# Altium footprint library S100 PCBLib.PcbLib: 24 footprints (part 2 of 2)
Each footprint in its own frame and in the unit in brackets; x right, y up, seen from the top. Pads: shape width x height; smd on the part's side, far side on the other; paste and mask are expansions set on the pad; w line width, h text height; cw(c..) or ccw(c..) is an arc to the next point about the centre after c.
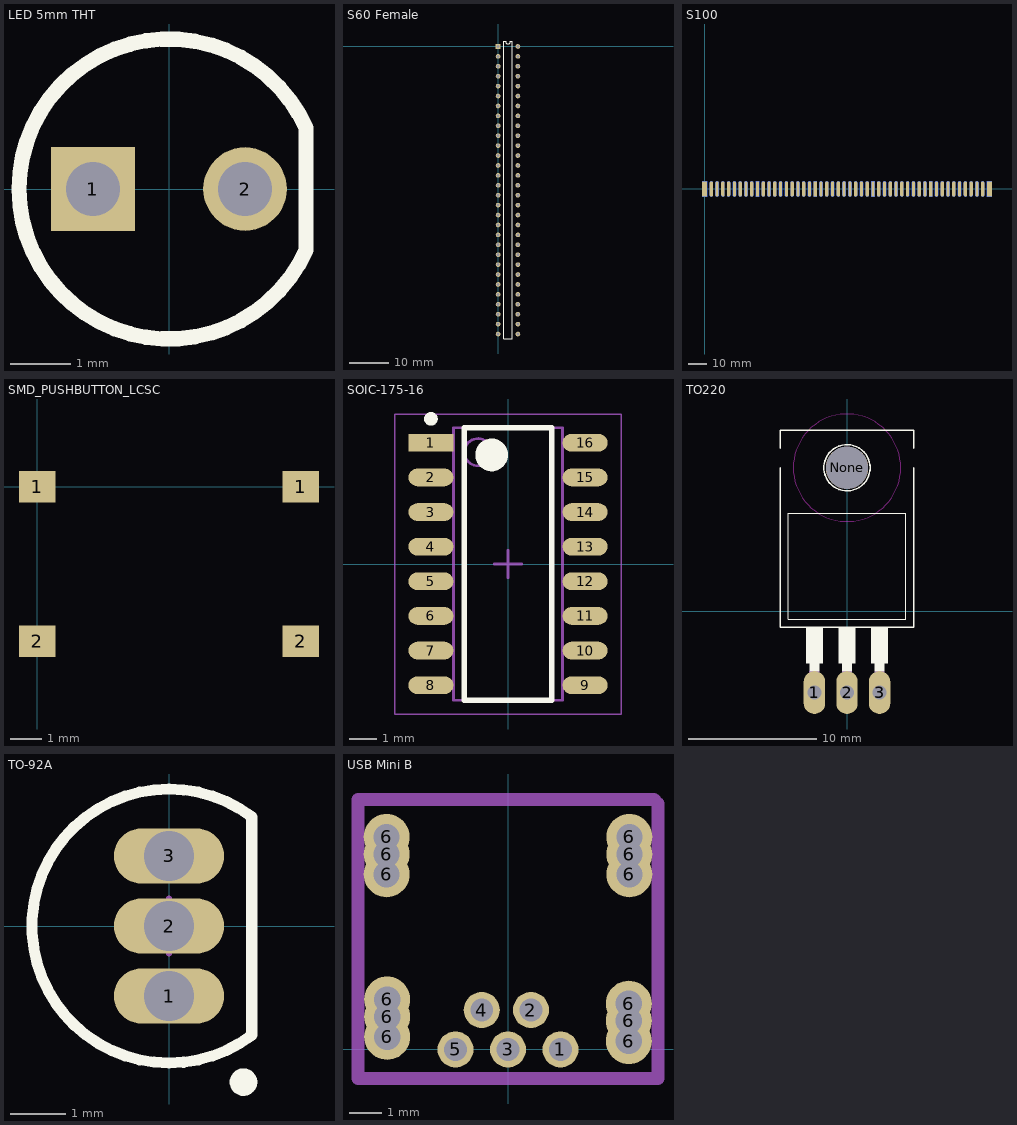
[diagram p1: the footprints below, top view; thin cyan lines are the x and y axes]

## LED 5mm THT [mil]
pads (2):
  rect 55x55 hole 35.43: 1(-50,0)
  round 55 hole 35.43: 2(50,0)
Top Overlay:
  lines w10: 90.12,-40.01 90.12,40.05 ccw(c0,0) 90.13,-40.01
3D body "LED, 5mm, red v4.step": height 350.39, standoff -1102.36, extent -116.13,-116.11 100.92,116.12

## S60 Female [mm]
pads (60):
  rect 1.2x1.2 hole 0.8: 1(0,0)
  round 1.2 hole 0.8: 2(0,-2.54) 3(0,-5.08) 4(0,-7.62) 5(0,-10.16) 6(0,-12.7) 7(0,-15.24) 8(0,-17.78) 9(0,-20.32) 10(0,-22.86) 11(0,-25.4) 12(0,-27.94) 13(0,-30.48) 14(0,-33.02) 15(0,-35.56) 16(0,-38.1) 17(0,-40.64) 18(0,-43.18) 19(0,-45.72) 20(0,-48.26) 21(0,-50.8) 22(0,-53.34) 23(0,-55.88) 24(0,-58.42) 25(0,-60.96) 26(0,-63.5) 27(0,-66.04) 28(0,-68.58) 29(0,-71.12) 30(0,-73.66) 31(5.08,-73.66) 32(5.08,-71.12) 33(5.08,-68.58) 34(5.08,-66.04) 35(5.08,-63.5) 36(5.08,-60.96) 37(5.08,-58.42) 38(5.08,-55.88) 39(5.08,-53.34) 40(5.08,-50.8) 41(5.08,-48.26) 42(5.08,-45.72) 43(5.08,-43.18) 44(5.08,-40.64) 45(5.08,-38.1) 46(5.08,-35.56) 47(5.08,-33.02) 48(5.08,-30.48) 49(5.08,-27.94) 50(5.08,-25.4) 51(5.08,-22.86) 52(5.08,-20.32) 53(5.08,-17.78) 54(5.08,-15.24) 55(5.08,-12.7) 56(5.08,-10.16) 57(5.08,-7.62) 58(5.08,-5.08) 59(5.08,-2.54) 60(5.08,0)
Top Overlay:
  lines w0.2: 1.435,-74.93 3.645,-74.93 3.645,1.27 3.175,1.27 cw(c2.54,1.27) 1.905,1.27 1.435,1.27 1.435,-74.93

## S100 [mil]
pads (100):
  rect 110x330 smd: 1(0,0) 50(6165,0)
  oval 70x330 smd: 2(145,0) 3(270,0) 4(395,0) 5(520,0) 6(645,0) 7(770,0) 8(895,0) 9(1020,0) 11(1270,0) 12(1395,0) 13(1520,0) 14(1645,0) 15(1770,0) 16(1895,0) 17(2020,0) 18(2145,0) 19(2270,0) 21(2520,0) 22(2645,0) 23(2770,0) 24(2895,0) 25(3020,0) 26(3145,0) 27(3270,0) 28(3395,0) 29(3520,0) 31(3770,0) 32(3895,0) 33(4020,0) 34(4145,0) 35(4270,0) 36(4395,0) 37(4520,0) 38(4645,0) 39(4770,0) 41(5020,0) 42(5145,0) 43(5270,0) 44(5395,0) 45(5520,0) 46(5645,0) 47(5770,0) 48(5895,0) 49(6020,0)
  rect 70x330 smd: 10(1145,0) 20(2395,0) 30(3645,0) 40(4895,0)
  rect 110x330 smd far side: 51(0,0) 100(6165,0)
  oval 70x330 smd far side: 52(145,0) 53(270,0) 54(395,0) 55(520,0) 56(645,0) 57(770,0) 58(895,0) 59(1020,0) 61(1270,0) 62(1395,0) 63(1520,0) 64(1645,0) 65(1770,0) 66(1895,0) 67(2020,0) 68(2145,0) 69(2270,0) 71(2520,0) 72(2645,0) 73(2770,0) 74(2895,0) 75(3020,0) 76(3145,0) 77(3270,0) 78(3395,0) 79(3520,0) 81(3770,0) 82(3895,0) 83(4020,0) 84(4145,0) 85(4270,0) 86(4395,0) 87(4520,0) 88(4645,0) 89(4770,0) 91(5020,0) 92(5145,0) 93(5270,0) 94(5395,0) 95(5520,0) 96(5645,0) 97(5770,0) 98(5895,0) 99(6020,0)
  rect 70x330 smd far side: 60(1145,0) 70(2395,0) 80(3645,0) 90(4895,0)
Top Solder:
  rectangle: -92.52,-168.11 6253.94,107.48

## SMD_PUSHBUTTON_LCSC [mm]
pads (4):
  rect 1.15x1 smd: 1(0,0) 1(8.35,0) 2(0,-4.9) 2(8.35,-4.9)

## SOIC-175-16 [mm] "SOIC, 16-Leads, Body 9.90x3.90mm, Pitch 1.27mm, IPC Low Density"
height 1.75
pads (16):
  rect 1.65x0.65 smd: 1(-2.825,4.445)
  oval 1.65x0.65 smd: 2(-2.825,3.175) 3(-2.825,1.905) 4(-2.825,0.635) 5(-2.825,-0.635) 6(-2.825,-1.905) 7(-2.825,-3.175) 8(-2.825,-4.445) 9(2.825,-4.445) 10(2.825,-3.175) 11(2.825,-1.905) 12(2.825,-0.635) 13(2.825,0.635) 14(2.825,1.905) 15(2.825,3.175) 16(2.825,4.445)
Top Overlay:
  circle w0.6: c-0.6,4 r0.3
  circle w0.25: c-2.825,5.32 r0.125
  lines w0.2: -1.6,-5 1.6,-5 1.6,5 -1.6,5 -1.6,-5
Top Assembly:
  circle w0.1: c-1.1,4.1 r0.5
  lines w0.1: -2,-5 2,-5 2,5 -2,5 -2,-5
Top Courtyard:
  lines w0.05: -4.15,-5.5 4.15,-5.5 4.15,5.5 -4.15,5.5 -4.15,-5.5
  lines w0.1: -0.5,0 0.5,0 ; 0,-0.5 0,0.5
3D body "SOIC127P600X175-16M.step": height 1.75, standoff 0, extent -3,-5 3,5

## TO220 [mil]
pads (4):
  oval 66x132 hole 44: 1(-100,-250) 2(0,-250) 3(100,-250)
  round 130 hole 130 unplated: None(0,440)
Top Overlay:
  circle w5: c0,440 r71
  region: 75.08,-50 125,-50 125,-160.18 75.08,-160.18
  region: -25.03,-50 25,-50 25,-160.22 -25.03,-160.22
  region: -125.22,-50 -75,-50 -75,-160.28 -125.22,-160.28
  region: -115.05,-160 -85,-160 -85,-185.08 -115.05,-185.08
  region: -15.01,-160 15,-160 15,-185.09 -15.01,-185.09
  region: 85.03,-160 115,-160 115,-185.06 85.03,-185.06
  lines w2: -180,-25 -180,300 180,300 180,-25 -180,-25
  lines w5: -205,440 -205,-50 205,-50 205,440 ; -205,500 -205,555 205,555 205,500
Keep-Out Layer:
  circle w0: c0,440 r165
  circle w0: c0,440 r165
  circle w0: c0,440 r165
  circle w0: c0,440 r165
  circle w0: c0,440 r165
  circle w0: c0,440 r165
Mechanical 4:
  region: 85.1,-185 115,-185 115,-260.31 85.1,-260.31
  region: -15.03,-185 15,-185 15,-260.5 -15.03,-260.5
  region: -115.14,-185 -85,-185 -85,-260.33 -115.14,-260.33
  region: 85.1,-185 115,-185 115,-260.31 85.1,-260.31
  region: -15.03,-185 15,-185 15,-260.5 -15.03,-260.5
  region: -115.14,-185 -85,-185 -85,-260.33 -115.14,-260.33
  text "3" at 75.02,-9.84 h73.82
  text "2" at -25.04,-9.84 h73.82
  text "1" at -125.24,-9.84 h73.82
  text "3" at 75.02,-9.84 h73.82
  text "2" at -25.04,-9.84 h73.82
  text "1" at -125.24,-9.84 h73.82
3D body "TO-220 3pins short V1.stp": height 68.9, standoff -104.33, extent -242.88,-310.34 225,560

## TO-92A [mm] "TO, Flat Index; 3 In-Line, Axial Leads; Body Dia. 4.5mm; Leads 0.51 x 0.48 mm (max)"
height 6.86
pads (3):
  oval 2x1 hole 0.9: 1(0,-1.27) 2(0,0) 3(0,1.27)
Top Overlay:
  circle w0.25: c1.35,-2.83 r0.125
  lines w0.2: 1.5,-1.98 cw(c0,0) 1.5,1.98 1.5,-1.98
Mechanical 13:
  lines w0.1: 1.5,-1.98 cw(c0,0) 1.5,1.98 1.5,-1.98
Mechanical 15:
  lines w0.1: -0.5,0 0.5,0 ; 0,-0.5 0,0.5
3D body: height 6.86, standoff 2.2, extent -2.485,-2.495 1.501,2.495

## USB Mini B [mm]
pads (17):
  round 1.1 hole 0.7: 1(1.6,0) 2(0.7,1.2) 3(0,0) 4(-0.8,1.2) 5(-1.6,0)
  round 1.4 hole 0.8: 6(-3.7,5.334) 6(-3.7,5.95) 6(-3.7,6.477) 6(-3.683,0.381) 6(-3.683,0.997) 6(-3.683,1.524) 6(3.683,0.254) 6(3.683,0.87) 6(3.683,1.397) 6(3.7,5.334) 6(3.7,5.95) 6(3.7,6.477)
Mechanical 1:
  lines w0.4: -4.572,-0.889 4.572,-0.889 4.572,7.493 4.445,7.62 -4.572,7.62 -4.572,-0.889